# EAGLE library part HEADER2X5 (library anton)
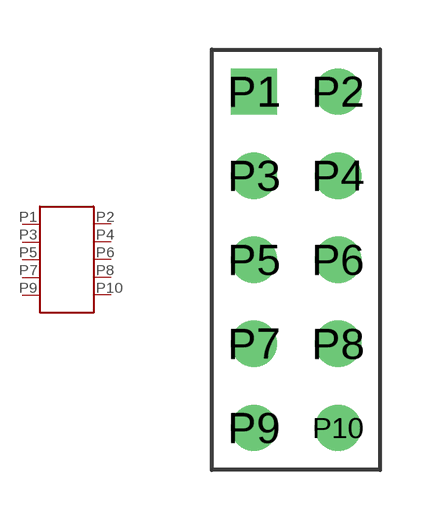
[diagram p18: symbol with the pads of HEADER2X5; footprint HEADER2X5]

Designator prefix -

## HEADER2X5  [HEADER2X5]
P1  P1
P2  P2
P3  P3
P4  P4
P5  P5
P6  P6
P7  P7
P8  P8
P9  P9
P10  P10

## Footprint HEADER2X5 (pad centres in mm)
drill 0.889 square: P1 -1.27,5.08
drill 0.889 round: P2 1.27,5.08; P3 -1.27,2.54; P4 1.27,2.54; P5 -1.27,0; P6 1.27,0; P7 -1.27,-2.54; P8 1.27,-2.54; P9 -1.27,-5.08; P10 1.27,-5.08